# Altium footprint library RJULE4218201.PcbLib: 1 footprints
Each footprint in its own frame and in the unit in brackets; x right, y up, seen from the top. Pads: shape width x height; smd on the part's side, far side on the other; paste and mask are expansions set on the pad; w line width, h text height; cw(c..) or ccw(c..) is an arc to the next point about the centre after c.
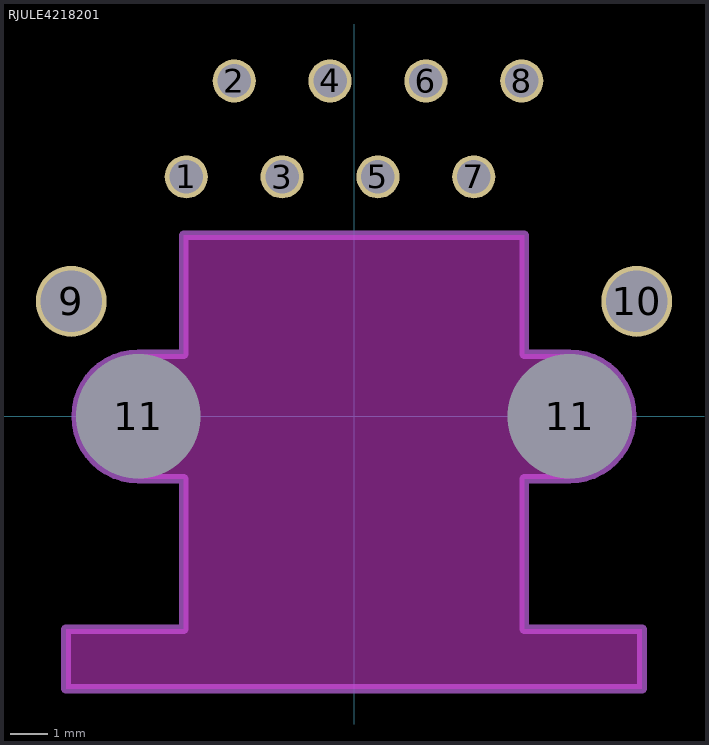
[diagram p0: the footprint, top view; thin cyan lines are the x and y axes]

## RJULE4218201 [mil]
pads (12):
  round 45 hole 35: 1(-175,250) 2(-125,350) 3(-75,250) 4(-25,350) 5(25,250) 6(75,350) 7(125,250) 8(175,350)
  round 74 hole 64: 9(-295,120) 10(295,120)
  round 74 hole 130 unplated: 11(-225,0) 11(225,0)
Keep-Out Layer:
  board cut-out: -177.5,189 -177.5,65 -225,65 -225,-65 -177.5,-65 -177.5,-222 -300.5,-222 -300.5,-284 300.5,-284 300.5,-222 177.5,-222 177.5,-65 225,-65 225,65 177.5,65 177.5,189
Mechanical 1:
  lines w10: -300.5,-284 300.5,-284 300.5,-222 177.5,-222 177.5,-65 225,-65 ccw(c225,0) 225,65 177.5,65 177.5,189 -177.5,189 -177.5,65 -225,65 ccw(c-225,0) -225,-65 -177.5,-65 -177.5,-222 -300.5,-222 -300.5,-284
3D body "M-RJULE-4X182-01-REVT10.STEP": height 376.33, standoff -137.84, extent -372.25,-347.85 372.24,410